# Altium footprint library FTDI_SSOP_16.PcbLib: 1 footprints
Each footprint in its own frame and in the unit in brackets; x right, y up, seen from the top. Pads: shape width x height; smd on the part's side, far side on the other; paste and mask are expansions set on the pad; w line width, h text height; cw(c..) or ccw(c..) is an arc to the next point about the centre after c.
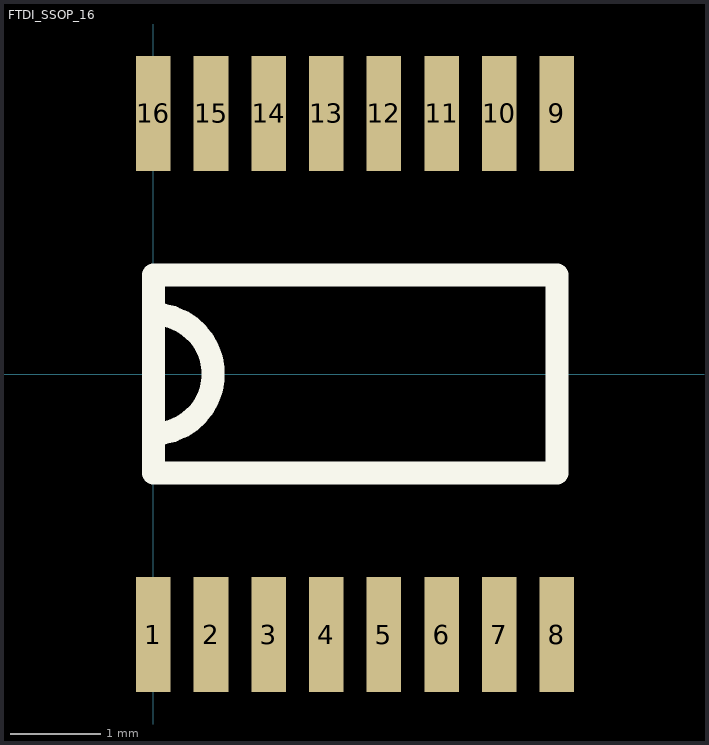
[diagram p0: the footprint, top view; thin cyan lines are the x and y axes]

## FTDI_SSOP_16 [mil]
height 61
pads (16):
  rect 15x50 smd: 1(0,-113) 2(25,-113) 3(50,-113) 4(75,-113) 5(100,-113) 6(125,-113) 7(150,-113) 8(175,-113) 9(175,113) 10(150,113) 11(125,113) 12(100,113) 13(75,113) 14(50,113) 15(25,113) 16(0,113)
Top Overlay:
  lines w10: 0,-25.96 ccw(c0,0) 0,25.96 ; 0,-43 0,43 175,43 175,-43 0,-43